# EAGLE library part INCR3B (library incrementeur3b)
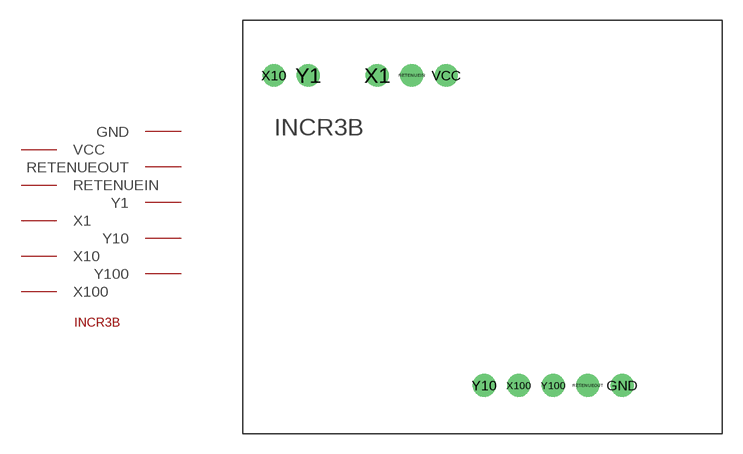
[diagram p0: symbol with the pads of INCR3B; footprint INCR3B]

Designator prefix -

## INCR3B  [INCR3B]
GND  GND
RETENUEIN  RETENUEIN
RETENUEOUT  RETENUEOUT
VCC  VCC
X1  X1
X10  X10
X100  X100
Y1  Y1
Y10  Y10
Y100  Y100

## Footprint INCR3B (pad centres in mm)
drill 0.8 pad 1.676: GND 28.194,-20.32; RETENUEIN 12.7,2.54; RETENUEOUT 25.654,-20.32; VCC 15.24,2.54; X1 10.16,2.54; X10 2.54,2.54; X100 20.574,-20.32; Y1 5.08,2.54; Y10 18.034,-20.32; Y100 23.114,-20.32